# Altium footprint library Mosfets.PcbLib: 5 footprints
Each footprint in its own frame and in the unit in brackets; x right, y up, seen from the top. Pads: shape width x height; smd on the part's side, far side on the other; paste and mask are expansions set on the pad; w line width, h text height; cw(c..) or ccw(c..) is an arc to the next point about the centre after c.
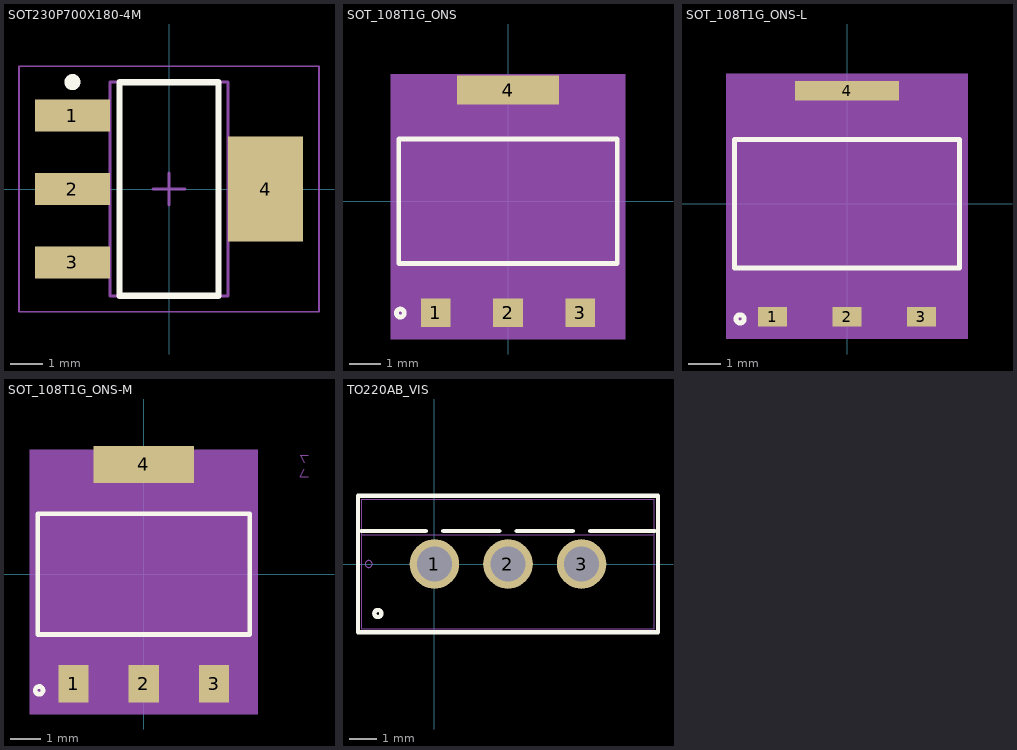
[diagram p0: the footprints below, top view; thin cyan lines are the x and y axes]

## SOT230P700X180-4M [mm] "SOT223, 4-Leads, Body 6,50x7,00mm (avg), Pitch 2,30mm, IPC Low Density"
height 1.8
pads (4):
  rect 2.35x1 smd: 1(-3.025,2.3) 2(-3.025,0) 3(-3.025,-2.3)
  rect 2.35x3.3 smd: 4(3.025,0)
Top Overlay:
  circle w0.25: c-3.025,3.35 r0.125
  lines w0.2: -1.55,-3.35 1.55,-3.35 1.55,3.35 -1.55,3.35 -1.55,-3.35
Mechanical 13:
  lines w0.1: -1.85,-3.35 1.85,-3.35 1.85,3.35 -1.85,3.35 -1.85,-3.35
Mechanical 15:
  lines w0.05: -4.7,-3.85 4.7,-3.85 4.7,3.85 -4.7,3.85 -4.7,-3.85
  lines w0.1: -0.5,0 0.5,0 ; 0,-0.5 0,0.5
3D body "sot-223.STEP": height 1.64, standoff -0.04, extent -3.466,-3.25 3.466,3.25

## SOT_108T1G_ONS [mil]
pads (4):
  rect 37x36 smd paste+0 mask+0: 1(-90.55,-139.5) 2(0,-139.5) 3(90.55,-139.5)
  rect 128x36 smd paste+0 mask+0: 4(0,139.5)
Top Overlay:
  circle w6: c-135,-140 r5
  lines w6: -136.89,-78 -136.89,78 136.89,78 136.89,-78 -136.89,-78
Mechanical 5:
  region: -146.89,159.5 146.89,159.5 146.89,-172.5 -146.89,-172.5
Mechanical 13:
  circle w0: c-121.89,-63 r5
  lines w1: -108.05,-143.5 -108.05,-73 -73.05,-73 -73.05,-143.5 ; -17.5,-143.5 -17.5,-73 17.5,-73 17.5,-143.5 ; 73.05,-143.5 73.05,-73 108.05,-73 108.05,-143.5 ; -131.89,-73 -131.89,73 131.89,73 131.89,-73 -131.89,-73 ; -63,73 -63,143.5 63,143.5 63,73 -63,73
Mechanical 15:
  lines w6: -118.05,-167.5 -118.05,-83 -141.89,-83 -141.89,83 -73,83 ; 73,83 141.89,83 141.89,-83 118.05,-83 118.05,-167.5
3D body: height 10, standoff 0, extent 0,0 10,10
3D body "SOT_108T1G_ONS.step": height 69.09, standoff 0, extent -131.89,-143.5 131.89,143.5

## SOT_108T1G_ONS-L [mil]
pads (4):
  rect 35x24 smd paste+0 mask+0: 1(-90.55,-137.5) 2(0,-137.5) 3(90.55,-137.5)
  rect 126x24 smd paste+0 mask+0: 4(0,137.5)
Top Overlay:
  circle w6: c-130,-140 r5
  lines w6: -136.89,-78 -136.89,78 136.89,78 136.89,-78 -136.89,-78
Mechanical 5:
  region: -146.89,158.5 146.89,158.5 146.89,-164.5 -146.89,-164.5
Mechanical 13:
  circle w0: c-121.89,-63 r5
  lines w1: -131.89,-73 -131.89,73 131.89,73 131.89,-73 -131.89,-73 ; -108.05,-143.5 -73.05,-143.5 -73.05,-73 -108.05,-73 -108.05,-143.5 ; -63,73 -63,143.5 63,143.5 63,73 -63,73 ; -17.5,-143.5 17.5,-143.5 17.5,-73 -17.5,-73 -17.5,-143.5 ; 73.05,-143.5 108.05,-143.5 108.05,-73 73.05,-73 73.05,-143.5
Mechanical 15:
  lines w6: -73,83 -141.89,83 -141.89,-83 -118.05,-83 -118.05,-159.5 118.05,-159.5 118.05,-83 141.89,-83 141.89,83 73,83
3D body: height 10, standoff 0, extent 0,0 10,10
3D body "SOT_108T1G_ONS.step": height 69.09, standoff 0, extent -131.89,-143.5 131.89,143.51

## SOT_108T1G_ONS-M [mil]
pads (4):
  rect 39x48 smd paste+0 mask+0: 1(-90.55,-141.5) 2(0,-141.5) 3(90.55,-141.5)
  rect 130x48 smd paste+0 mask+0: 4(0,141.5)
Top Overlay:
  circle w6: c-135,-150 r5
  lines w6: -136.89,-78 136.89,-78 136.89,78 -136.89,78 -136.89,-78
Mechanical 5:
  region: -146.89,160.5 146.89,160.5 146.89,-180.5 -146.89,-180.5
Mechanical 7:
  lines w1: 206.89,135.5 201.89,125.5 211.89,125.5 ; 206.89,143.5 201.89,153.5 211.89,153.5
Mechanical 13:
  circle w0: c-121.89,-63 r5
  lines w1: -131.89,-73 131.89,-73 131.89,73 -131.89,73 -131.89,-73 ; -108.05,-143.5 -108.05,-73 -73.05,-73 -73.05,-143.5 -108.05,-143.5 ; -63,73 63,73 63,143.5 -63,143.5 -63,73 ; -17.5,-143.5 -17.5,-73 17.5,-73 17.5,-143.5 -17.5,-143.5 ; 73.05,-143.5 73.05,-73 108.05,-73 108.05,-143.5 73.05,-143.5
Mechanical 15:
  lines w6: -73,83 -141.89,83 -141.89,-83 -118.05,-83 -118.05,-175.5 118.05,-175.5 118.05,-83 141.89,-83 141.89,83 73,83
3D body: height 10, standoff 0, extent 0,0 10,10
3D body "SOT_108T1G_ONS.step": height 69.09, standoff 0, extent -131.89,-143.5 131.89,143.5

## TO220AB_VIS [mil]
pads (3):
  round 70 hole 50 mask+0: 1(0,0) 2(103.94,0) 3(207.87,0)
Top Overlay:
  circle w6: c-80,-70 r5
  lines w6: -103.06,46.5 -12.3,46.5 ; 12.3,46.5 91.63,46.5 ; 116.24,46.5 195.57,46.5 ; 220.18,46.5 310.94,46.5 ; -108.06,-96.5 315.94,-96.5 315.94,96.5 -108.06,96.5 -108.06,-96.5
Mechanical 13:
  circle w0: c-93.06,0 r5
  lines w1: -103.06,41.5 310.94,41.5 ; -103.06,-91.5 310.94,-91.5 310.94,91.5 -103.06,91.5 -103.06,-91.5
3D body: height 10, standoff 0, extent 0,0 10,10
3D body "TO220AB_VIS.step": height 600, standoff -260, extent -100,-86.5 314.02,96.5